# Altium footprint library AMR_Ref.PcbLib: 26 footprints (part 1 of 2)
Each footprint in its own frame and in the unit in brackets; x right, y up, seen from the top. Pads: shape width x height; smd on the part's side, far side on the other; paste and mask are expansions set on the pad; w line width, h text height; cw(c..) or ccw(c..) is an arc to the next point about the centre after c.
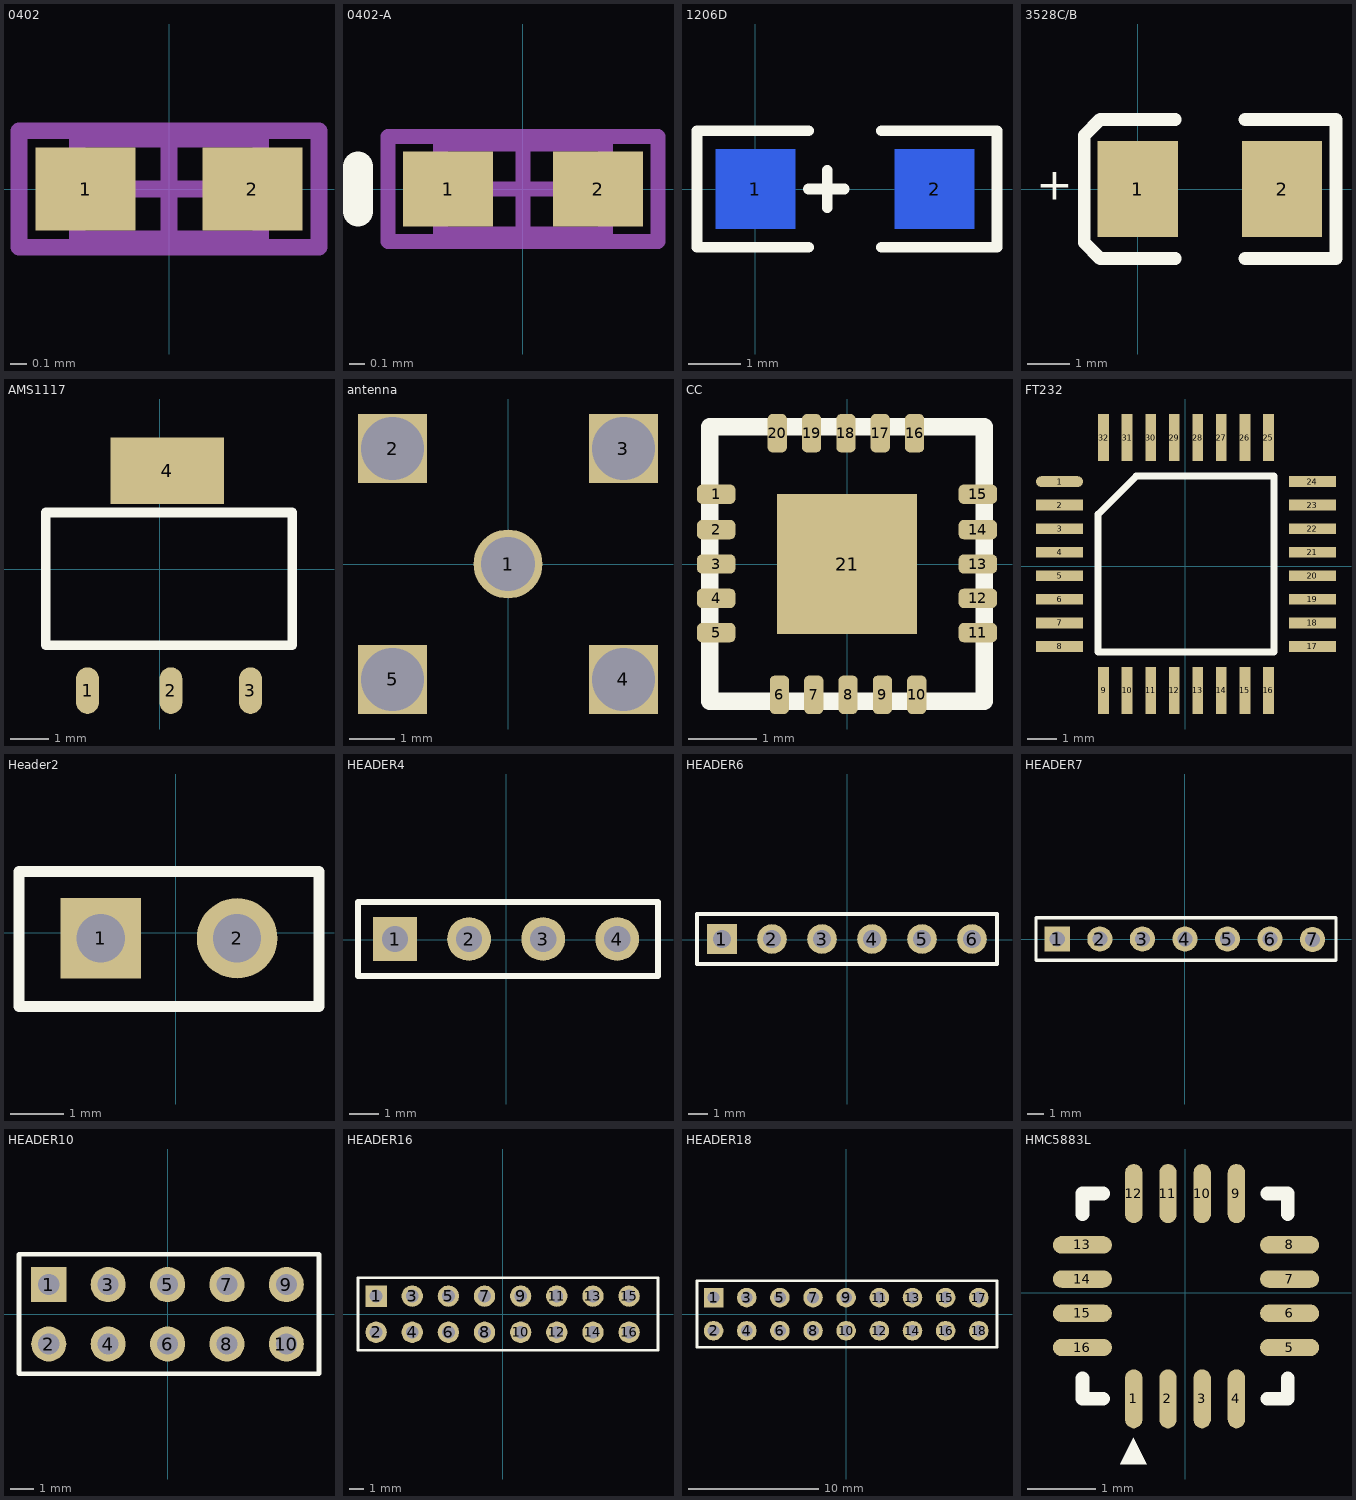
[diagram p0: the footprints below, top view; thin cyan lines are the x and y axes]

## 0402 [mm] "Chip Capacitor, Body 1.0x0.5mm, IPC High Density"
height 1.3
pads (2):
  rect 0.6x0.5 smd: 1(-0.5,0) 2(0.5,0)
Mechanical 13:
  lines w0.1: -0.55,-0.3 -0.55,0.3 0.55,0.3 0.55,-0.3 -0.55,-0.3
Mechanical 15:
  lines w0.1: -0.3,0 0.3,0 ; 0,-0.3 0,0.3 ; -0.9,-0.35 -0.9,0.35 0.9,0.35 0.9,-0.35 -0.9,-0.35
3D body: height 1.3, standoff 0, extent -0.55,-0.3 0.55,0.3

## 0402-A [mm] "Chip Inductor, Body 1.0x0.5mm, IPC High Density"
height 0.55
pads (2):
  rect 0.6x0.5 smd: 1(-0.5,0) 2(0.5,0)
Top Overlay:
  lines w0.2: -1.1,-0.15 -1.1,0.15
Mechanical 13:
  lines w0.1: -0.55,-0.3 0.55,-0.3 0.55,0.3 -0.55,0.3 -0.55,-0.3
Mechanical 15:
  lines w0.1: -0.3,0 0.3,0 ; 0,-0.3 0,0.3 ; -0.9,-0.35 0.9,-0.35 0.9,0.35 -0.9,0.35 -0.9,-0.35
3D body: height 0.55, standoff 0, extent -0.55,-0.3 0.55,0.3

## 1206D [mil]
height 21.65
pads (2):
  rect 60x60 smd far side: 1(0,0) 2(135,0)
Top Overlay:
  lines w8: 40,-44 -44,-44 -44,44 40,44 ; 40,0 67,0 ; 54,-14 54,14 ; 95,-44 182,-44 182,44 95,44

## 3528C/B [mm]
height 5.08
pads (2):
  rect 1.9x2.28 smd: 1(0,0) 2(3.42,0)
Top Overlay:
  lines w0.305: 0.889,-1.651 -0.889,-1.651 -1.27,-1.27 -1.27,1.27 -0.889,1.651 0.889,1.651 ; 2.54,-1.651 4.699,-1.651 4.699,1.651 2.54,1.651
  text "+" at -2.413,-0.254 h0.76

## AMS1117 [mm]
height 0.55
pads (4):
  rrect100% 0.604x1.231 smd mask+0.07: 1(-1.9,-3.2) 2(0.3,-3.2) 3(2.4,-3.2)
  rect 3x1.75 smd mask+0.07: 4(0.2,2.6)
Top Overlay:
  lines w0.254: -3,-2 3.5,-2 3.5,1.5 -3,1.5 -3,-2

## antenna [mil]
height 21.65
pads (5):
  round 60 hole 47.24: 1(0,0)
  rect 60x60 hole 55 square: 2(-100.39,100.39) 3(100.39,100.39) 4(100.39,-100.39) 5(-100.39,-100.39)

## CC [mil]
height 21.65
pads (21):
  rrect50% 22x11 smd mask+2.76: 1(-75,40) 2(-75,19.69) 3(-75,0) 4(-75,-19.69) 5(-75,-39.37) 11(75,-39.37) 12(75,-19.69) 13(75,0) 14(75,19.69) 15(75,40)
  rrect50% 11x22 smd mask+2.76: 6(-38.74,-75) 7(-19.06,-75) 8(0.63,-75) 9(20.32,-75) 10(40,-75) 16(38.74,75) 17(19.06,75) 18(-0.63,75) 19(-20.32,75) 20(-40,75)
  rect 80x80 smd: 21(0,0)
Top Overlay:
  lines w10: -78.74,-78.74 -78.74,78.74 78.74,78.74 78.74,-78.74 -78.74,-78.74

## FT232 [mm]
height 0.55
pads (32):
  oval 1.6x0.37 smd: 1(-4.274,2.87)
  rect 1.6x0.37 smd: 2(-4.274,2.07) 3(-4.274,1.27) 4(-4.274,0.47) 5(-4.274,-0.33) 6(-4.274,-1.13) 7(-4.274,-1.93) 8(-4.274,-2.73) 17(4.326,-2.73) 18(4.326,-1.93) 19(4.326,-1.13) 20(4.326,-0.33) 21(4.326,0.47) 22(4.326,1.27) 23(4.326,2.07) 24(4.326,2.87)
  rect 0.37x1.6 smd: 9(-2.774,-4.23) 10(-1.974,-4.23) 11(-1.174,-4.23) 12(-0.374,-4.23) 13(0.426,-4.23) 14(1.226,-4.23) 15(2.026,-4.23) 16(2.826,-4.23) 25(2.826,4.37) 26(2.026,4.37) 27(1.226,4.37) 28(0.426,4.37) 29(-0.374,4.37) 30(-1.174,4.37) 31(-1.974,4.37) 32(-2.774,4.37)
Top Overlay:
  lines w0.254: -2.966,-2.922 3.018,-2.922 3.018,3.062 -1.658,3.062 -2.966,1.754 -2.966,-2.922

## Header2 [mm]
height 0.55
pads (2):
  rect 1.5x1.5 hole 0.9: 1(-1.399,-0.101)
  round 1.5 hole 0.9: 2(1.141,-0.101)
Top Overlay:
  lines w0.2: -2.921,-1.371 -2.921,1.143 2.667,1.143 2.667,-1.371 -2.921,-1.371

## HEADER4 [mm]
height 0.55
pads (4):
  rect 1.5x1.5 hole 0.9: 1(-3.812,0.026)
  round 1.5 hole 0.9: 2(-1.272,0.026) 3(1.268,0.026) 4(3.808,0.026)
Top Overlay:
  lines w0.2: -5.082,-1.244 -5.082,1.296 5.207,1.296 5.207,-1.244 -5.082,-1.244

## HEADER6 [mm]
height 0.55
pads (6):
  rect 1.5x1.5 hole 0.9: 1(-6.352,0.026)
  round 1.5 hole 0.9: 2(-3.812,0.026) 3(-1.272,0.026) 4(1.268,0.026) 5(3.808,0.026) 6(6.348,0.026)
Top Overlay:
  lines w0.2: -7.622,-1.244 -7.622,1.296 7.618,1.296 7.618,-1.244 -7.622,-1.244

## HEADER7 [mm]
height 0.55
pads (7):
  rect 1.5x1.5 hole 0.9: 1(-7.622,0.026)
  round 1.5 hole 0.9: 2(-5.082,0.026) 3(-2.542,0.026) 4(-0.002,0.026) 5(2.538,0.026) 6(5.078,0.026) 7(7.62,0)
Top Overlay:
  lines w0.2: -8.892,-1.244 9.017,-1.244 9.017,1.296 -8.892,1.296 -8.892,-1.244

## HEADER10 [mm]
height 0.55
pads (10):
  rect 1.5x1.5 hole 0.9: 1(-5.08,1.27)
  round 1.5 hole 0.9: 2(-5.08,-1.27) 3(-2.54,1.27) 4(-2.54,-1.27) 5(0,1.27) 6(0,-1.27) 7(2.54,1.27) 8(2.54,-1.27) 9(5.08,1.27) 10(5.08,-1.27)
Top Overlay:
  lines w0.2: -6.352,-2.54 -6.352,2.566 6.477,2.566 6.477,-2.54 -6.352,-2.54

## HEADER16 [mm]
height 0.55
pads (16):
  rect 1.5x1.5 hole 0.9: 1(-8.89,1.27)
  round 1.5 hole 0.9: 2(-8.89,-1.27) 3(-6.35,1.27) 4(-6.35,-1.27) 5(-3.81,1.27) 6(-3.81,-1.27) 7(-1.27,1.27) 8(-1.27,-1.27) 9(1.27,1.27) 10(1.27,-1.27) 11(3.81,1.27) 12(3.81,-1.27) 13(6.35,1.27) 14(6.35,-1.27) 15(8.89,1.27) 16(8.89,-1.27)
Top Overlay:
  lines w0.2: -10.162,-2.54 -10.162,2.566 10.922,2.566 10.922,-2.54 -10.162,-2.54

## HEADER18 [mm]
height 0.55
pads (18):
  rect 1.5x1.5 hole 0.9: 1(-10.16,1.27)
  round 1.5 hole 0.9: 2(-10.16,-1.27) 3(-7.62,1.27) 4(-7.62,-1.27) 5(-5.08,1.27) 6(-5.08,-1.27) 7(-2.54,1.27) 8(-2.54,-1.27) 9(0,1.27) 10(0,-1.27) 11(2.54,1.27) 12(2.54,-1.27) 13(5.08,1.27) 14(5.08,-1.27) 15(7.62,1.27) 16(7.62,-1.27) 17(10.16,1.27) 18(10.16,-1.27)
Top Overlay:
  lines w0.2: -11.432,-2.54 -11.432,2.566 11.557,2.566 11.557,-2.54 -11.432,-2.54

## HMC5883L [mil]
height 21.65
pads (16):
  oval 10x34 smd: 1(-29.53,-61.02) 2(-9.84,-61.02) 3(9.84,-61.02) 4(29.53,-61.02) 9(29.53,57.09) 10(9.84,57.09) 11(-9.84,57.09) 12(-29.53,57.09)
  oval 34x10 smd: 5(60.12,-31.5) 6(60.12,-11.81) 7(60.12,7.87) 8(60.12,27.56) 13(-59.06,27.56) 14(-59.06,7.87) 15(-59.06,-11.81) 16(-59.06,-31.5)
Top Overlay:
  region: -37.19,-98.52 -22.19,-98.52 -29.69,-83.52
  lines w7.87: -59.06,-49.21 -59.06,-61.02 -47.24,-61.02 ; -59.06,45.28 -59.06,57.09 -47.24,57.09 ; 47.24,-61.02 59.06,-61.02 59.06,-49.21 ; 47.24,57.09 59.06,57.09 59.06,45.28